# EAGLE library part SWD_2X5 (library bt_arm)
SWD (Single Wire Debug) 2x5 header SWD header for programming ARM microcontrollers
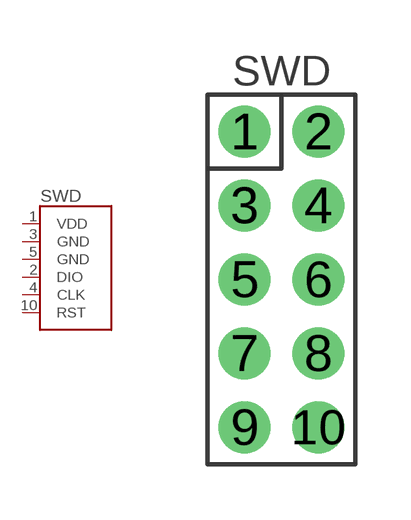
[diagram p5: symbol with the pads of SWD_2X5; footprint SWD_2X5]

Designator prefix J

## SWD_2X5  [SWD_2X5]
1  VDD
2  DIO
3  GND
4  CLK
5  GND1
10  RST

## Footprint SWD_2X5 (pad centres in mm)
SWD 2x5 2mm pitch header
drill 0.9: 1 -1,4; 2 1,4; 3 -1,2; 4 1,2; 5 -1,0; 6 1,0; 7 -1,-2; 8 1,-2; 9 -1,-4; 10 1,-4